# EAGLE library part CC3200 (library Components)
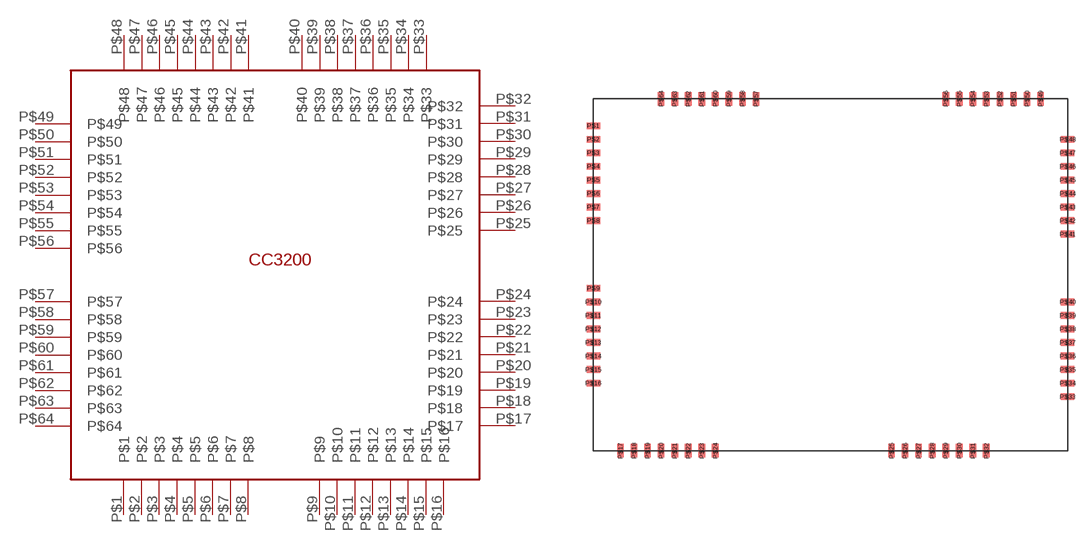
[diagram p0: symbol with the pads of 64_DEF; footprint 64_DEF]

Designator prefix -

## CC3200  [64_DEF]
P$1  P$1
P$2  P$2
P$3  P$3
P$4  P$4
P$5  P$5
P$6  P$6
P$7  P$7
P$8  P$8
P$9  P$9
P$10  P$10
P$11  P$11
P$12  P$12
P$13  P$13
P$14  P$14
P$15  P$15
P$16  P$16
P$17  P$17
P$18  P$18
P$19  P$19
P$20  P$20
P$21  P$21
P$22  P$22
P$23  P$23
P$24  P$24
P$25  P$25
P$26  P$26
P$27  P$27
P$28  P$28
P$29  P$29
P$30  P$30
P$31  P$31
P$32  P$32
P$33  P$33
P$34  P$34
P$35  P$35
P$36  P$36
P$37  P$37
P$38  P$38
P$39  P$39
P$40  P$40
P$41  P$41
P$42  P$42
P$43  P$43
P$44  P$44
P$45  P$45
P$46  P$46
P$47  P$47
P$48  P$48
P$49  P$49
P$50  P$50
P$51  P$51
P$52  P$52
P$53  P$53
P$54  P$54
P$55  P$55
P$56  P$56
P$57  P$57
P$58  P$58
P$59  P$59
P$60  P$60
P$61  P$61
P$62  P$62
P$63  P$63
P$64  P$64

## Footprint 64_DEF (pad centres in mm)
smd 1.27 x 0.635: P$1 -19.05,13.97; P$2 -19.05,12.7; P$3 -19.05,11.43; P$4 -19.05,10.16; P$5 -19.05,8.89; P$6 -19.05,7.62; P$7 -19.05,6.35; P$8 -19.05,5.08; P$9 -19.05,-1.27; P$10 -19.05,-2.54; P$11 -19.05,-3.81; P$12 -19.05,-5.08; P$13 -19.05,-6.35; P$14 -19.05,-7.62; P$15 -19.05,-8.89; P$16 -19.05,-10.16; P$33 25.4,-11.43; P$34 25.4,-10.16; P$35 25.4,-8.89; P$36 25.4,-7.62; P$37 25.4,-6.35; P$38 25.4,-5.08; P$39 25.4,-3.81; P$40 25.4,-2.54; P$41 25.4,3.81; P$42 25.4,5.08; P$43 25.4,6.35; P$44 25.4,7.62; P$45 25.4,8.89; P$46 25.4,10.16; P$47 25.4,11.43; P$48 25.4,12.7
smd 0.635 x 1.27: P$17 -16.51,-16.51; P$18 -15.24,-16.51; P$19 -13.97,-16.51; P$20 -12.7,-16.51; P$21 -11.43,-16.51; P$22 -10.16,-16.51; P$23 -8.89,-16.51; P$24 -7.62,-16.51; P$25 8.89,-16.51; P$26 10.16,-16.51; P$27 11.43,-16.51; P$28 12.7,-16.51; P$29 13.97,-16.51; P$30 15.24,-16.51; P$31 16.51,-16.51; P$32 17.78,-16.51; P$49 22.86,16.51; P$50 21.59,16.51; P$51 20.32,16.51; P$52 19.05,16.51; P$53 17.78,16.51; P$54 16.51,16.51; P$55 15.24,16.51; P$56 13.97,16.51; P$57 -3.81,16.51; P$58 -5.08,16.51; P$59 -6.35,16.51; P$60 -7.62,16.51; P$61 -8.89,16.51; P$62 -10.16,16.51; P$63 -11.43,16.51; P$64 -12.7,16.51